# Altium schematic symbol library ARBOR.SchLib: 18 symbols
Pins are listed as number, name and electrical type; pins without a type are passive.

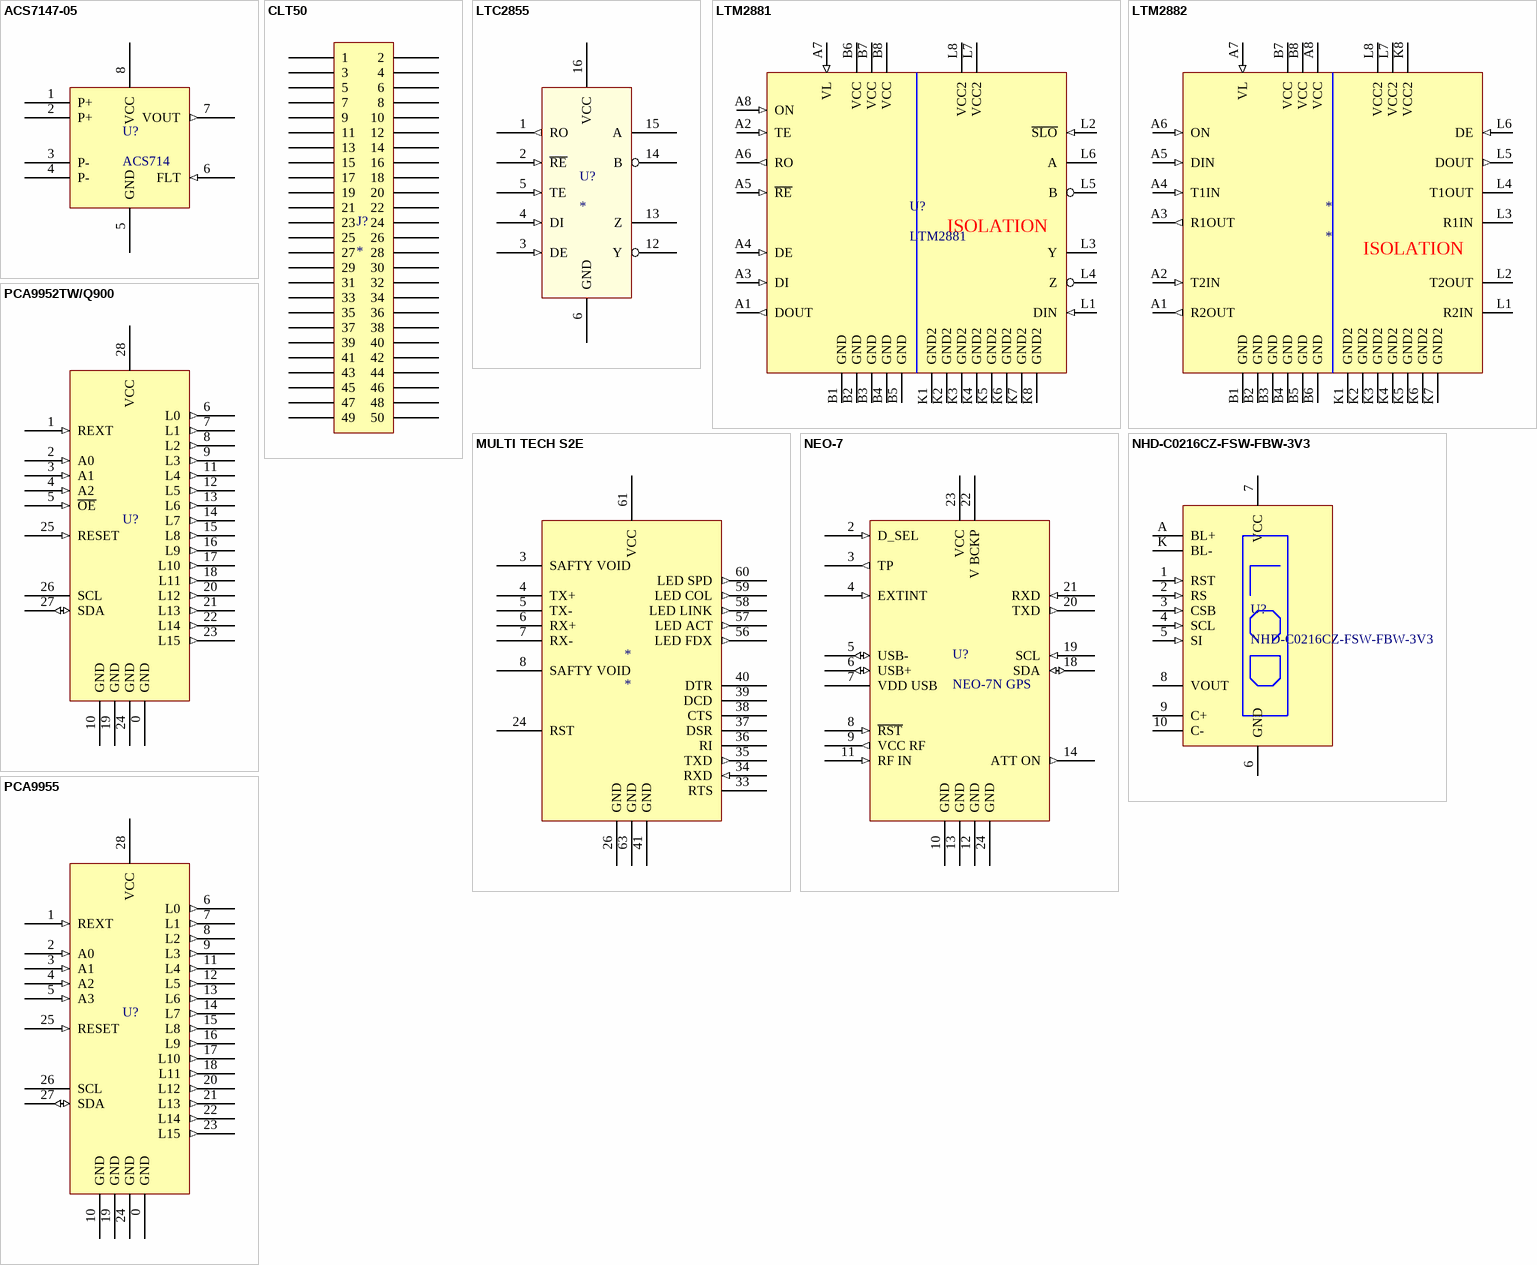
[diagram p0: symbols ACS7147-05 to PCA9955]

## ACS7147-05
designator U?, comment ACS714
SENSOR CURRENT 5A 5V BI 8-SOIC; Manufacturer Part Number: ACS714ELCTR-05B-T; Manufacturer: Allegro MicroSystems, LLC
footprint SOP8
pins: 1 P+ (power), 2 P+ (power), 3 P- (power), 4 P- (power), 5 GND (power), 6 FLT (in), 7 VOUT (out), 8 VCC (power)

## CLT50
designator J?
SAMTEC - CLT-150-02-F-D - BOTTOM SHROUD TERMINAL; Manufacturer Part Number: CLT-150-02-F-D; Manufacturer: SAMTEC
footprint CLT-150-02-F-D
pins: 1, 2, 3, 4, 5, 6, 7, 8, 9, 10, 11, 12, 13, 14, 15, 16, 17, 18, 19, 20, 21, 22, 23, 24, 25, 26, 27, 28, 29, 30, 31, 32, 33, 34, 35, 36, 37, 38, 39, 40, 41, 42, 43, 44, 45, 46, 47, 48, 49, 50

## LTC2855
designator U?
LINEAR TECHNOLOGY - LTC2855CGN#PBF - IC, RS485, TXRX, FULL-DUPLEX, 16SSOP; Manufacturer: LINEAR TECHNOLOGY; Manufacturer Part Number: LTC2855CGN#PBF
footprint SSOP16 (16-LEAD PLASTIC SSOP GN PACKAGE)
pins: 1 RO (out), 2 ~{RE} (in), 3 DE (in), 4 DI (in), 5 TE (in), 6 GND (power), 7 NC hidden, 8 NC hidden, 9 NC hidden, 10 NC hidden, 11 NC hidden, 12 Y, 13 Z, 14 B, 15 A, 16 VCC (power)

## LTM2881
designator U?
LINEAR TECHNOLOGY - LTM2881CV-3#PBF - TXRX, RS485/RS422, UMODULE, 32LGA; Device Type: Transceiver; Driver Case Style: LGA; Supply Voltage Range: 3V to 3.6; Interface: RS422, RS485; Manufacturer Part Number: LTM2881CV-3#PBF; Manufacturer: LINEAR TECHNOLOGY; ComponentLink1URL: http://www.farnell.com/datasheets/1694679.pdf; ComponentLink1Description: http://www.farnell.com/datasheets/1694679.pdf
footprint LTM288X (Isolated RS232/RS485/RS422 Transceiver)
pins: A1 DOUT (out), A2 TE (in), A3 DI (in), A4 DE (in), A5 ~{RE} (in), A6 RO (out), A7 VL (in), A8 ON (in), B1 GND (power), B2 GND (power), B3 GND (power), B4 GND (power), B5 GND (power), B6 VCC (power), B7 VCC (power), B8 VCC (power), K1 GND2 (power), K2 GND2 (power), K3 GND2 (power), K4 GND2 (power), K5 GND2 (power), K6 GND2 (power), K7 GND2 (power), K8 GND2 (power), L1 DIN (in), L2 ~{SLO} (in), L3 Y (hiz), L4 Z (hiz), L5 B (hiz), L6 A (hiz), L7 VCC2 (power), L8 VCC2 (power)
text: ISOLATION

## LTM2882
designator *
footprint LTM288X (Isolated RS232/RS485/RS422 Transceiver)
pins: A1 R2OUT (out), A2 T2IN (in), A3 R1OUT (out), A4 T1IN (in), A5 DIN (in), A6 ON (in), A7 VL (in), A8 VCC (power), B1 GND (power), B2 GND (power), B3 GND (power), B4 GND (power), B5 GND (power), B6 GND (power), B7 VCC (power), B8 VCC (power), K1 GND2 (power), K2 GND2 (power), K3 GND2 (power), K4 GND2 (power), K5 GND2 (power), K6 GND2 (power), K7 GND2 (power), K8 VCC2 (power), L1 R2IN (hiz), L2 T2OUT (hiz), L3 R1IN (hiz), L4 T1OUT (hiz), L5 DOUT (out), L6 DE (in), L7 VCC2 (power), L8 VCC2 (power)
text: ISOLATION

## MULTI TECH S2E
designator *
pins: 3 SAFTY VOID, 4 TX+, 5 TX-, 6 RX+, 7 RX-, 8 SAFTY VOID, 24 RST, 26 GND (power), 33 RTS, 34 RXD (in), 35 TXD (out), 36 RI, 37 DSR, 38 CTS, 39 DCD, 40 DTR, 41 GND (power), 56 LED FDX (out), 57 LED ACT (out), 58 LED LINK (out), 59 LED COL (out), 60 LED SPD (out), 61 VCC (power), 63 GND (power)

## NEO-7
designator U?, comment NEO-7N GPS
footprint NEO-7 (GPS/GNSS NEO-7N MODULE)
pins: 2 D_SEL (in), 3 TP (out), 4 EXTINT (in), 5 USB- (io), 6 USB+ (io), 7 VDD USB (power), 8 ~{RST} (in), 9 VCC RF (out), 10 GND (power), 11 RF IN (in), 12 GND (power), 13 GND (power), 14 ATT ON (out), 18 SDA (io), 19 SCL (in), 20 TXD (out), 21 RXD (in), 22 V BCKP (power), 23 VCC (power), 24 GND (power)

## NHD-C0216CZ-FSW-FBW-3V3
designator U?
LCD Character Display Modules & Accessories FSTN (+) Transfl 41.4 x 24.3 x 4.0; Manufacturer: Newhaven Display; Operating Supply Voltage: 3 V; Module Size - W x H x T: 41.4 mm x 24.3 mm x 4 mm; Product: COG LCD Character Display Modules; Manufacturer Part Number: NHD-C0216CZ-FSW-FBW-3V3; ComponentLink1URL: http://www.mouser.com/ds/2/291/NHD-C0216CZ-FSW-FBW-3V3-48206.pdf; ComponentLink1Description: http://www.mouser.com/ds/2/291/NHD-C0216CZ-FSW-FBW-3V3-48206.pdf
footprint NHD-C0216CZ (COG 2 line x 16 charater LCD Display)
pins: 1 RST (in), 2 RS (in), 3 CSB (in), 4 SCL (in), 5 SI (in), 6 GND (power), 7 VCC (power), 8 VOUT (power), 9 C+, 10 C-, A BL+, K BL-

## PCA9952TW/Q900
designator U?  (value not drawn)
IC LED DRVR CONST CURRENT; Manufacturer Part Number: PCA9952TW/Q900,118; Mounting Type: Surface Mount
footprint SOT1172-2 (HTSSOP28)
pins: 0 GND (power), 1 REXT (in), 2 A0 (in), 3 A1 (in), 4 A2 (in), 5 ~{OE} (in), 6 L0 (out), 7 L1 (out), 8 L2 (out), 9 L3 (out), 10 GND (power), 11 L4 (out), 12 L5 (out), 13 L6 (out), 14 L7 (out), 15 L8 (out), 16 L9 (out), 17 L10 (out), 18 L11 (out), 19 GND (power), 20 L12 (out), 21 L13 (out), 22 L14 (out), 23 L15 (out), 24 GND (power), 25 RESET (in), 26 SCL, 27 SDA (io), 28 VCC (power)

## PCA9955
designator U?  (value not drawn)
IC LED DRVR CONST CURRENT; Manufacturer Part Number: PCA9955TW,118; Mounting Type: Surface Mount
footprint SOT1172-2 (HTSSOP28)
pins: 0 GND (power), 1 REXT (in), 2 A0 (in), 3 A1 (in), 4 A2 (in), 5 A3 (in), 6 L0 (out), 7 L1 (out), 8 L2 (out), 9 L3 (out), 10 GND (power), 11 L4 (out), 12 L5 (out), 13 L6 (out), 14 L7 (out), 15 L8 (out), 16 L9 (out), 17 L10 (out), 18 L11 (out), 19 GND (power), 20 L12 (out), 21 L13 (out), 22 L14 (out), 23 L15 (out), 24 GND (power), 25 RESET (in), 26 SCL, 27 SDA (io), 28 VCC (power)

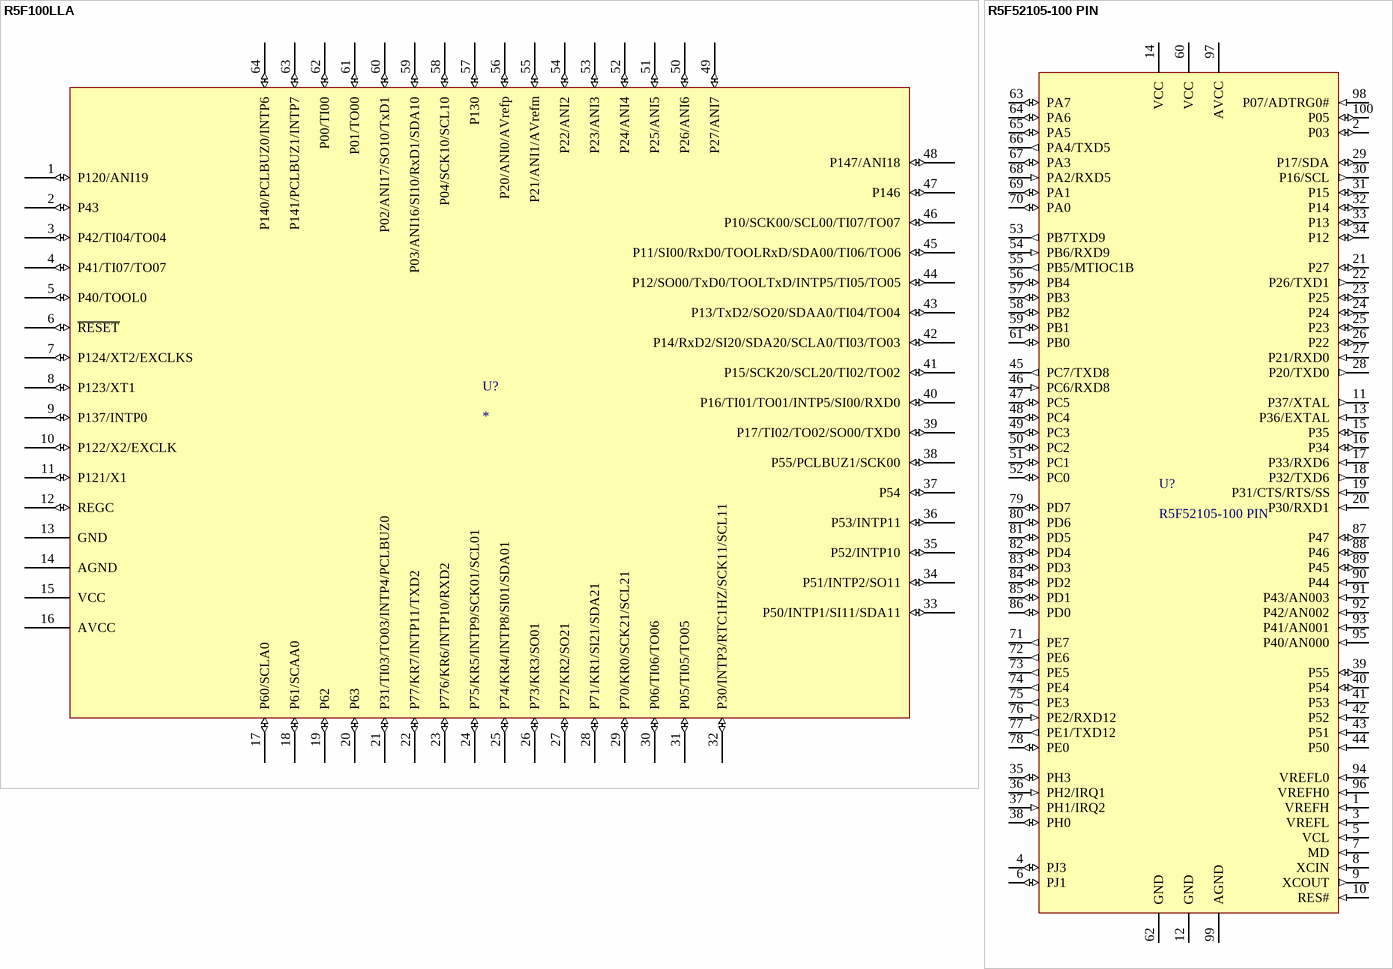
[diagram p1: symbols R5F100LLA to R5F52105-100 PIN]

## R5F100LLA
designator U?
MCU 16BIT 512KB FLASH 64LQFP; Manufacturer Part Number: R5F100LLAFB#V0; Manufacturer: Renesas Electronics America
footprint TQFP64
pins: 1 P120/ANI19 (io), 2 P43 (io), 3 P42/TI04/TO04 (io), 4 P41/TI07/TO07 (io), 5 P40/TOOL0 (io), 6 ~{RESET} (io), 7 P124/XT2/EXCLKS (io), 8 P123/XT1 (io), 9 P137/INTP0 (io), 10 P122/X2/EXCLK (io), 11 P121/X1 (io), 12 REGC (io), 13 GND (power), 14 AGND (power), 15 VCC (power), 16 AVCC (power), 17 P60/SCLA0 (io), 18 P61/SCAA0 (io), 19 P62 (io), 20 P63 (io), 21 P31/TI03/TO03/INTP4/PCLBUZ0 (io), 22 P77/KR7/INTP11/TXD2 (io), 23 P776/KR6/INTP10/RXD2 (io), 24 P75/KR5/INTP9/SCK01/SCL01 (io), 25 P74/KR4/INTP8/SI01/SDA01 (io), 26 P73/KR3/SO01 (io), 27 P72/KR2/SO21 (io), 28 P71/KR1/SI21/SDA21 (io), 29 P70/KR0/SCK21/SCL21 (io), 30 P06/TI06/TO06 (io), 31 P05/TI05/TO05 (io), 32 P30/INTP3/RTC1HZ/SCK11/SCL11 (io), 33 P50/INTP1/SI11/SDA11 (io), 34 P51/INTP2/SO11 (io), 35 P52/INTP10 (io), 36 P53/INTP11 (io), 37 P54 (io), 38 P55/PCLBUZ1/SCK00 (io), 39 P17/TI02/TO02/SO00/TXD0 (io), 40 P16/TI01/TO01/INTP5/SI00/RXD0 (io), 41 P15/SCK20/SCL20/TI02/TO02 (io), 42 P14/RxD2/SI20/SDA20/SCLA0/TI03/TO03 (io), 43 P13/TxD2/SO20/SDAA0/TI04/TO04 (io), 44 P12/SO00/TxD0/TOOLTxD/INTP5/TI05/TO05 (io), 45 P11/SI00/RxD0/TOOLRxD/SDA00/TI06/TO06 (io), 46 P10/SCK00/SCL00/TI07/TO07 (io), 47 P146 (io), 48 P147/ANI18 (io), 49 P27/ANI7 (io), 50 P26/ANI6 (io), 51 P25/ANI5 (io), 52 P24/ANI4 (io), 53 P23/ANI3 (io), 54 P22/ANI2 (io), 55 P21/ANI1/AVrefm (io), 56 P20/ANI0/AVrefp (io), 57 P130 (io), 58 P04/SCK10/SCL10 (io), 59 P03/ANI16/SI10/RxD1/SDA10 (io), 60 P02/ANI17/SO10/TxD1 (io), 61 P01/TO00 (io), 62 P00/TI00 (io), 63 P141/PCLBUZ1/INTP7 (io), 64 P140/PCLBUZ0/INTP6 (io)

## R5F52105-100 PIN
designator U?
MCU RX210 128K FLASH 100-LQFP; Manufacturer: Renesas Electronics America; Manufacturer Part Number: R5F52105ADFP#V0; Number of I /O: 84; Core Processor: RX; Voltage - Supply (Vcc/Vdd): 1.62 V ~ 5.5 V; Program Memory Size: 128KB (128K x 8); RAM Size: 20K x 8; Speed: 50MHz; Core Size: 32-Bit; Package / Case: 100-LQFP; Program Memory Type: FLASH; ComponentLink1URL: http://media.digikey.com/pdf/Data%20Sheets/Renesas/RX210.pdf; ComponentLink1Description: http://media.digikey.com/pdf/Data%20Sheets/Renesas/RX210.pdf
footprint TQFP100
pins: 1 VREFH (in), 2 P03 (io), 3 VREFL (in), 4 PJ3 (io), 5 VCL (in), 6 PJ1 (io), 7 MD (in), 8 XCIN (in), 9 XCOUT (out), 10 RES# (in), 11 P37/XTAL (out), 12 GND (power), 13 P36/EXTAL (in), 14 VCC (power), 15 P35 (io), 16 P34 (io), 17 P33/RXD6 (in), 18 P32/TXD6 (out), 19 P31/CTS/RTS/SS (in), 20 P30/RXD1 (in), 21 P27 (io), 22 P26/TXD1 (out), 23 P25 (io), 24 P24 (io), 25 P23 (io), 26 P22 (io), 27 P21/RXD0 (in), 28 P20/TXD0 (out), 29 P17/SDA (io), 30 P16/SCL (out), 31 P15 (io), 32 P14 (io), 33 P13 (io), 34 P12 (io), 35 PH3 (io), 36 PH2/IRQ1 (in), 37 PH1/IRQ2 (in), 38 PH0 (io), 39 P55 (io), 40 P54 (io), 41 P53 (in), 42 P52 (in), 43 P51 (in), 44 P50 (in), 45 PC7/TXD8 (out), 46 PC6/RXD8 (in), 47 PC5 (io), 48 PC4 (io), 49 PC3 (io), 50 PC2 (io), 51 PC1 (io), 52 PC0 (io), 53 PB7TXD9 (out), 54 PB6/RXD9 (in), 55 PB5/MTIOC1B (out), 56 PB4 (io), 57 PB3 (io), 58 PB2 (io), 59 PB1 (io), 60 VCC (power), 61 PB0 (io), 62 GND (power), 63 PA7 (io), 64 PA6 (io), 65 PA5 (io), 66 PA4/TXD5 (out), 67 PA3 (io), 68 PA2/RXD5 (in), 69 PA1 (io), 70 PA0 (io), 71 PE7 (out), 72 PE6 (out), 73 PE5 (out), 74 PE4 (out), 75 PE3 (out), 76 PE2/RXD12 (in), 77 PE1/TXD12 (out), 78 PE0 (io), 79 PD7 (io), 80 PD6 (io), 81 PD5 (io), 82 PD4 (io), 83 PD3 (io), 84 PD2 (io), 85 PD1 (io), 86 PD0 (io), 87 P47 (io), 88 P46 (io), 89 P45 (io), 90 P44 (in), 91 P43/AN003 (in), 92 P42/AN002 (in), 93 P41/AN001 (in), 94 VREFL0 (in), 95 P40/AN000 (in), 96 VREFH0 (in), 97 AVCC (power), 98 P07/ADTRG0# (in), 99 AGND (power), 100 P05 (io)

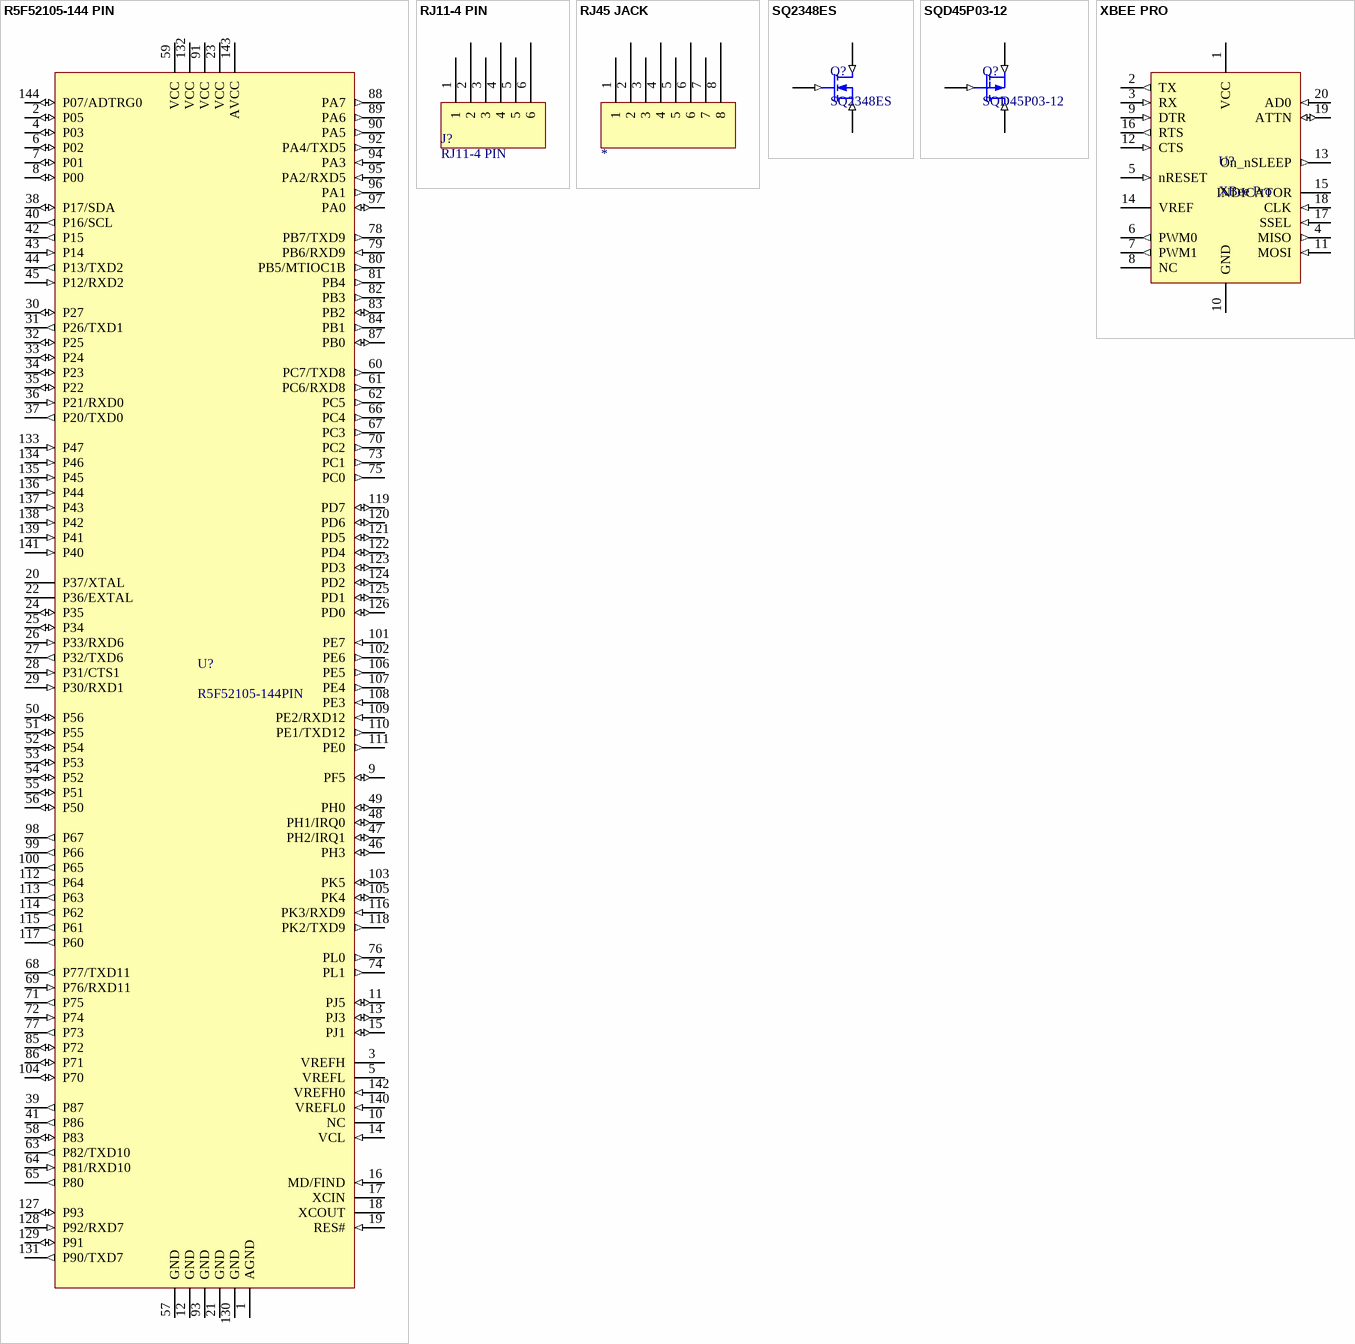
[diagram p2: symbols R5F52105-144 PIN to XBEE PRO]

## R5F52105-144 PIN
designator U?, comment R5F52105-144PIN
Manufacturer: Renesas Electronics America; Manufacturer Part Number: R5F52105BDFM#V0; Voltage - Supply (Vcc/Vdd): 1.62 V ~ 5.5 V; ComponentLink1URL: http://media.digikey.com/pdf/Data%20Sheets/Renesas/RX210.pdf; ComponentLink1Description: http://media.digikey.com/pdf/Data%20Sheets/Renesas/RX210.pdf
footprint TQFP144
pins: 1 AGND (power), 2 P05 (io), 3 VREFH, 4 P03 (io), 5 VREFL, 6 P02 (io), 7 P01 (io), 8 P00 (io), 9 PF5 (io), 10 NC, 11 PJ5 (io), 12 GND (power), 13 PJ3 (io), 14 VCL (in), 15 PJ1 (io), 16 MD/FIND (in), 17 XCIN, 18 XCOUT, 19 RES# (in), 20 P37/XTAL, 21 GND (power), 22 P36/EXTAL, 23 VCC (power), 24 P35 (io), 25 P34 (io), 26 P33/RXD6 (in), 27 P32/TXD6 (out), 28 P31/CTS1 (in), 29 P30/RXD1 (in), 30 P27 (io), 31 P26/TXD1 (out), 32 P25 (io), 33 P24 (io), 34 P23 (io), 35 P22 (io), 36 P21/RXD0 (in), 37 P20/TXD0 (out), 38 P17/SDA (io), 39 P87 (out), 40 P16/SCL (out), 41 P86 (out), 42 P15 (out), 43 P14 (in), 44 P13/TXD2 (out), 45 P12/RXD2 (in), 46 PH3 (io), 47 PH2/IRQ1 (io), 48 PH1/IRQ0 (io), 49 PH0 (io), 50 P56 (io), 51 P55 (io), 52 P54 (io), 53 P53 (io), 54 P52 (io), 55 P51 (io), 56 P50 (io), 57 GND (power), 58 P83 (io), 59 VCC (power), 60 PC7/TXD8 (out), 61 PC6/RXD8 (out), 62 PC5 (out), 63 P82/TXD10 (out), 64 P81/RXD10 (in), 65 P80 (out), 66 PC4 (out), 67 PC3 (out), 68 P77/TXD11 (out), 69 P76/RXD11 (in), 70 PC2 (out), 71 P75 (out), 72 P74 (in), 73 PC1 (out), 74 PL1 (out), 75 PC0 (out), 76 PL0 (out), 77 P73 (out), 78 PB7/TXD9 (out), 79 PB6/RXD9 (in), 80 PB5/MTIOC1B (out), 81 PB4 (out), 82 PB3 (out), 83 PB2 (io), 84 PB1 (out), 85 P72 (io), 86 P71 (io), 87 PB0 (io), 88 PA7 (out), 89 PA6 (out), 90 PA5 (out), 91 VCC (power), 92 PA4/TXD5 (out), 93 GND (power), 94 PA3 (in), 95 PA2/RXD5 (in), 96 PA1 (out), 97 PA0 (io), 98 P67 (out), 99 P66 (out), 100 P65 (out), 101 PE7 (in), 102 PE6 (out), 103 PK5 (io), 104 P70 (io), 105 PK4 (io), 106 PE5 (out), 107 PE4 (out), 108 PE3 (in), 109 PE2/RXD12 (in), 110 PE1/TXD12 (out), 111 PE0 (out), 112 P64 (out), 113 P63 (out), 114 P62 (out), 115 P61 (out), 116 PK3/RXD9 (in), 117 P60 (out), 118 PK2/TXD9 (out), 119 PD7 (io), 120 PD6 (io), 121 PD5 (io), 122 PD4 (io), 123 PD3 (io), 124 PD2 (io), 125 PD1 (io), 126 PD0 (io), 127 P93 (io), 128 P92/RXD7 (in), 129 P91 (io), 130 GND (power), 131 P90/TXD7 (out), 132 VCC (power), 133 P47 (in), 134 P46 (in), 135 P45 (in), 136 P44 (in), 137 P43 (in), 138 P42 (in), 139 P41 (in), 140 VREFL0 (in), 141 P40 (in), 142 VREFH0 (in), 143 AVCC (power), 144 P07/ADTRG0 (io)

## RJ11-4 PIN
designator J?
footprint C-1-5406010-2 (Tyco Electronics Vertical RJ11)
pins: 1, 2, 3, 4, 5, 6

## RJ45 JACK
designator ?
footprint C-3-1734577-5 (Tyco Electronics Vertical RJ45)
pins: 1, 2, 3, 4, 5, 6, 7, 8

## SQ2348ES
designator Q?
Vishay N-CHANNEL 30V; Manufacturer Part Number: SQ2348ES-T1-GE3; Manufacturer: Vishay
footprint SOT-23
pins: 1 G (in), 2 S (in), 3 D (in)

## SQD45P03-12
designator Q?
VISHAY SILICONIX - SQD45P03-12-GE3 - MOSFET,P CH,W DIODE,30V,50A,TO-252; Manufacturer: VISHAY SILICONIX; Manufacturer Part Number: SQD45P03-12-GE3
footprint TO-252AA
pins: 1  G (in), 2 S (in), 3 D (in)

## XBEE PRO
designator U?, comment XBee Pro
footprint XBEE PRO (XBEE WIFI)
pins: 1 VCC (power), 2 TX (out), 3 RX (in), 4 MISO (out), 5 nRESET (in), 6 PWM0 (out), 7 PWM1 (out), 8 NC, 9 DTR (in), 10 GND (power), 11 MOSI (in), 12 CTS (in), 13 On_nSLEEP (out), 14 VREF, 15 INDICATOR, 16 RTS (out), 17 SSEL (in), 18 CLK (in), 19 ATTN (io), 20 AD0 (in)